# EAGLE library part TUSB9261 (library My_TI)
TUSB9261 USB 3.0 to SATA Bridge Datasheet <http://www.ti.com/lit/ds/symlink/tusb9261.pdf>
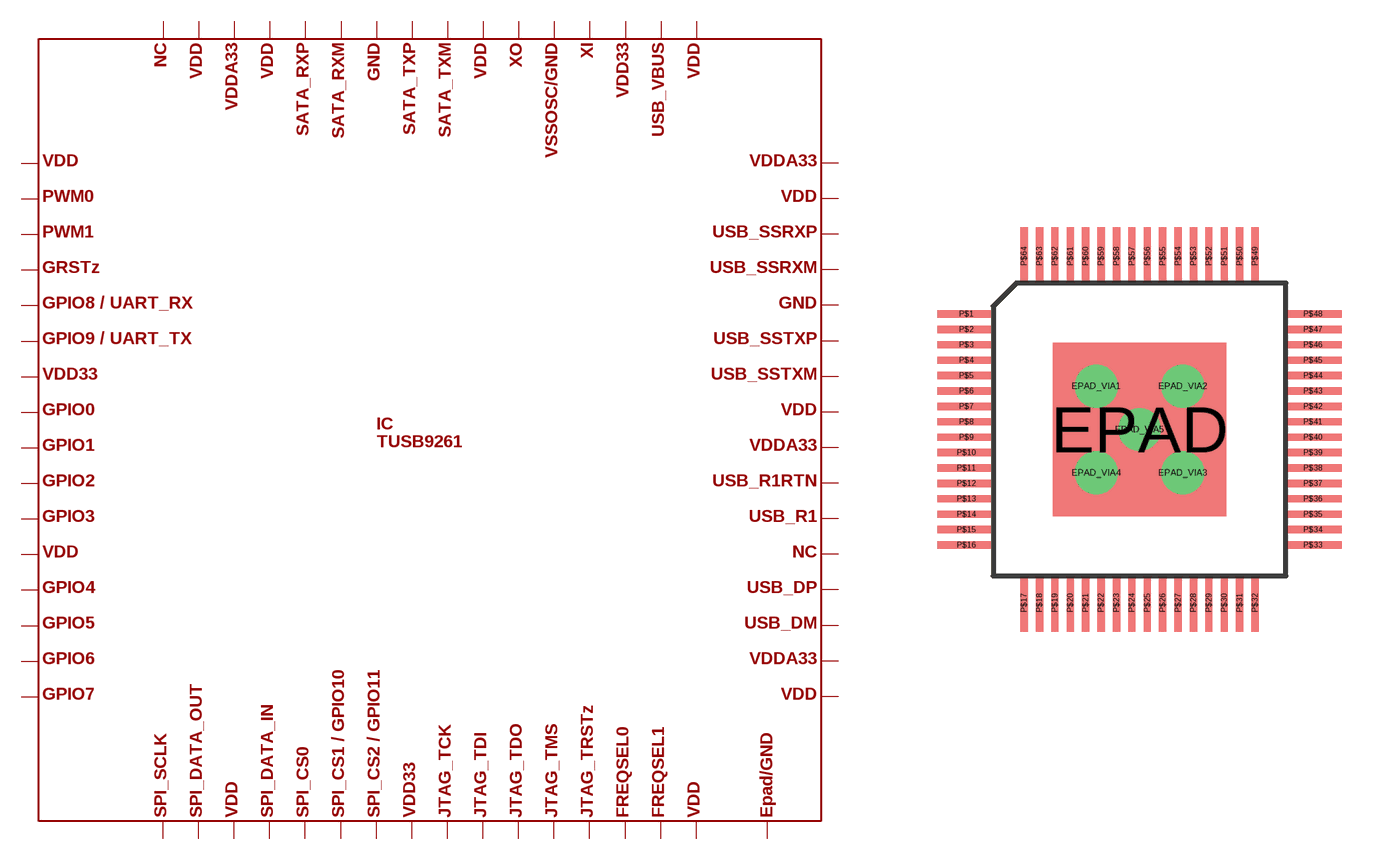
[diagram p58: symbol with the pads of HTQFP64_PWRPD_7X7; footprint HTQFP64_PWRPD_7X7]

Designator prefix IC

## TUSB9261  [HTQFP64_PWRPD_7X7]
EPAD  P$65
EPAD_VIA1  P$65
EPAD_VIA2  P$65
EPAD_VIA3  P$65
EPAD_VIA4  P$65
EPAD_VIA5  P$65
P$1  P$1
P$2  P$2
P$3  P$3
P$4  P$4
P$5  P$5
P$6  P$6
P$10  P$10
P$11  P$11
P$12  P$12
P$13  P$13
P$14  P$14
P$15  P$15
P$16  P$16
P$17  P$17
P$18  P$18
P$19  P$19
P$20  P$20
P$21  P$21
P$22  P$22
P$23  P$23
P$24  P$24
P$25  P$25
P$26  P$26
P$27  P$27
P$28  P$28
P$29  P$29
P$30  P$30
P$31  P$31
P$32  P$32
P$33  P$33
P$34  P$34
P$35  P$35
P$36  P$36
P$37  P$37
P$38  P$38
P$39  P$39
P$40  P$40
P$41  P$41
P$42  P$42
P$43  P$43
P$44  P$44
P$45  P$45
P$46  P$46
P$47  P$47
P$48  P$48
P$49  P$49
P$50  P$50
P$51  P$51
P$52  P$52
P$53  P$53
P$54  P$54
P$55  P$55
P$56  P$56
P$57  P$57
P$58  P$58
P$59  P$59
P$60  P$60
P$61  P$61
P$62  P$62
P$63  P$63
P$64  P$64

## Footprint HTQFP64_PWRPD_7X7 (pad centres in mm)
smd 4.5 x 4.5: EPAD 0,0
drill 0.6: EPAD_VIA1 -1.125,1.125; EPAD_VIA2 1.125,1.125; EPAD_VIA3 1.125,-1.125; EPAD_VIA4 -1.125,-1.125; EPAD_VIA5 0,0
smd 1.5 x 0.19: P$1 -4.5,3; P$2 -4.5,2.6; P$3 -4.5,2.2; P$4 -4.5,1.8; P$5 -4.5,1.4; P$6 -4.5,1; P$7 -4.5,0.6; P$8 -4.5,0.2; P$9 -4.5,-0.2; P$10 -4.5,-0.6; P$11 -4.5,-1; P$12 -4.5,-1.4; P$13 -4.5,-1.8; P$14 -4.5,-2.2; P$15 -4.5,-2.6; P$16 -4.5,-3; P$33 4.5,-3; P$34 4.5,-2.6; P$35 4.5,-2.2; P$36 4.5,-1.8; P$37 4.5,-1.4; P$38 4.5,-1; P$39 4.5,-0.6; P$40 4.5,-0.2; P$41 4.5,0.2; P$42 4.5,0.6; P$43 4.5,1; P$44 4.5,1.4; P$45 4.5,1.8; P$46 4.5,2.2; P$47 4.5,2.6; P$48 4.5,3
smd 0.19 x 1.5: P$17 -3,-4.5; P$18 -2.6,-4.5; P$19 -2.2,-4.5; P$20 -1.8,-4.5; P$21 -1.4,-4.5; P$22 -1,-4.5; P$23 -0.6,-4.5; P$24 -0.2,-4.5; P$25 0.2,-4.5; P$26 0.6,-4.5; P$27 1,-4.5; P$28 1.4,-4.5; P$29 1.8,-4.5; P$30 2.2,-4.5; P$31 2.6,-4.5; P$32 3,-4.5; P$49 3,4.5; P$50 2.6,4.5; P$51 2.2,4.5; P$52 1.8,4.5; P$53 1.4,4.5; P$54 1,4.5; P$55 0.6,4.5; P$56 0.2,4.5; P$57 -0.2,4.5; P$58 -0.6,4.5; P$59 -1,4.5; P$60 -1.4,4.5; P$61 -1.8,4.5; P$62 -2.2,4.5; P$63 -2.6,4.5; P$64 -3,4.5